# Altium schematic symbol library Resistors.SchLib: 1 symbol
Pins are listed as number, name and electrical type; pins without a type are passive.

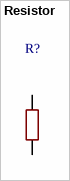
[diagram p0: symbol Resistor]

## Resistor
designator R?  (value not drawn)
Type: Type
footprint SMD Resistor 0402 (0402)
footprint SMD Resistor 0603 (0603)
footprint SMD Resistor 0805 (0805)
footprint SMD Resistor 1206 (1206)
footprint SMD Resistor 1210 (1210)
footprint SMD Resistor 1812 (1812)
footprint SMD Resistor 2010 (2010)
footprint SMD Resistor 2512 (2512)
footprint DIP Resistor AXIAL-0.9
pins: 1, 2